# Altium integrated library Actel Fusion.IntLib: 336 symbols (part 20 of 73)
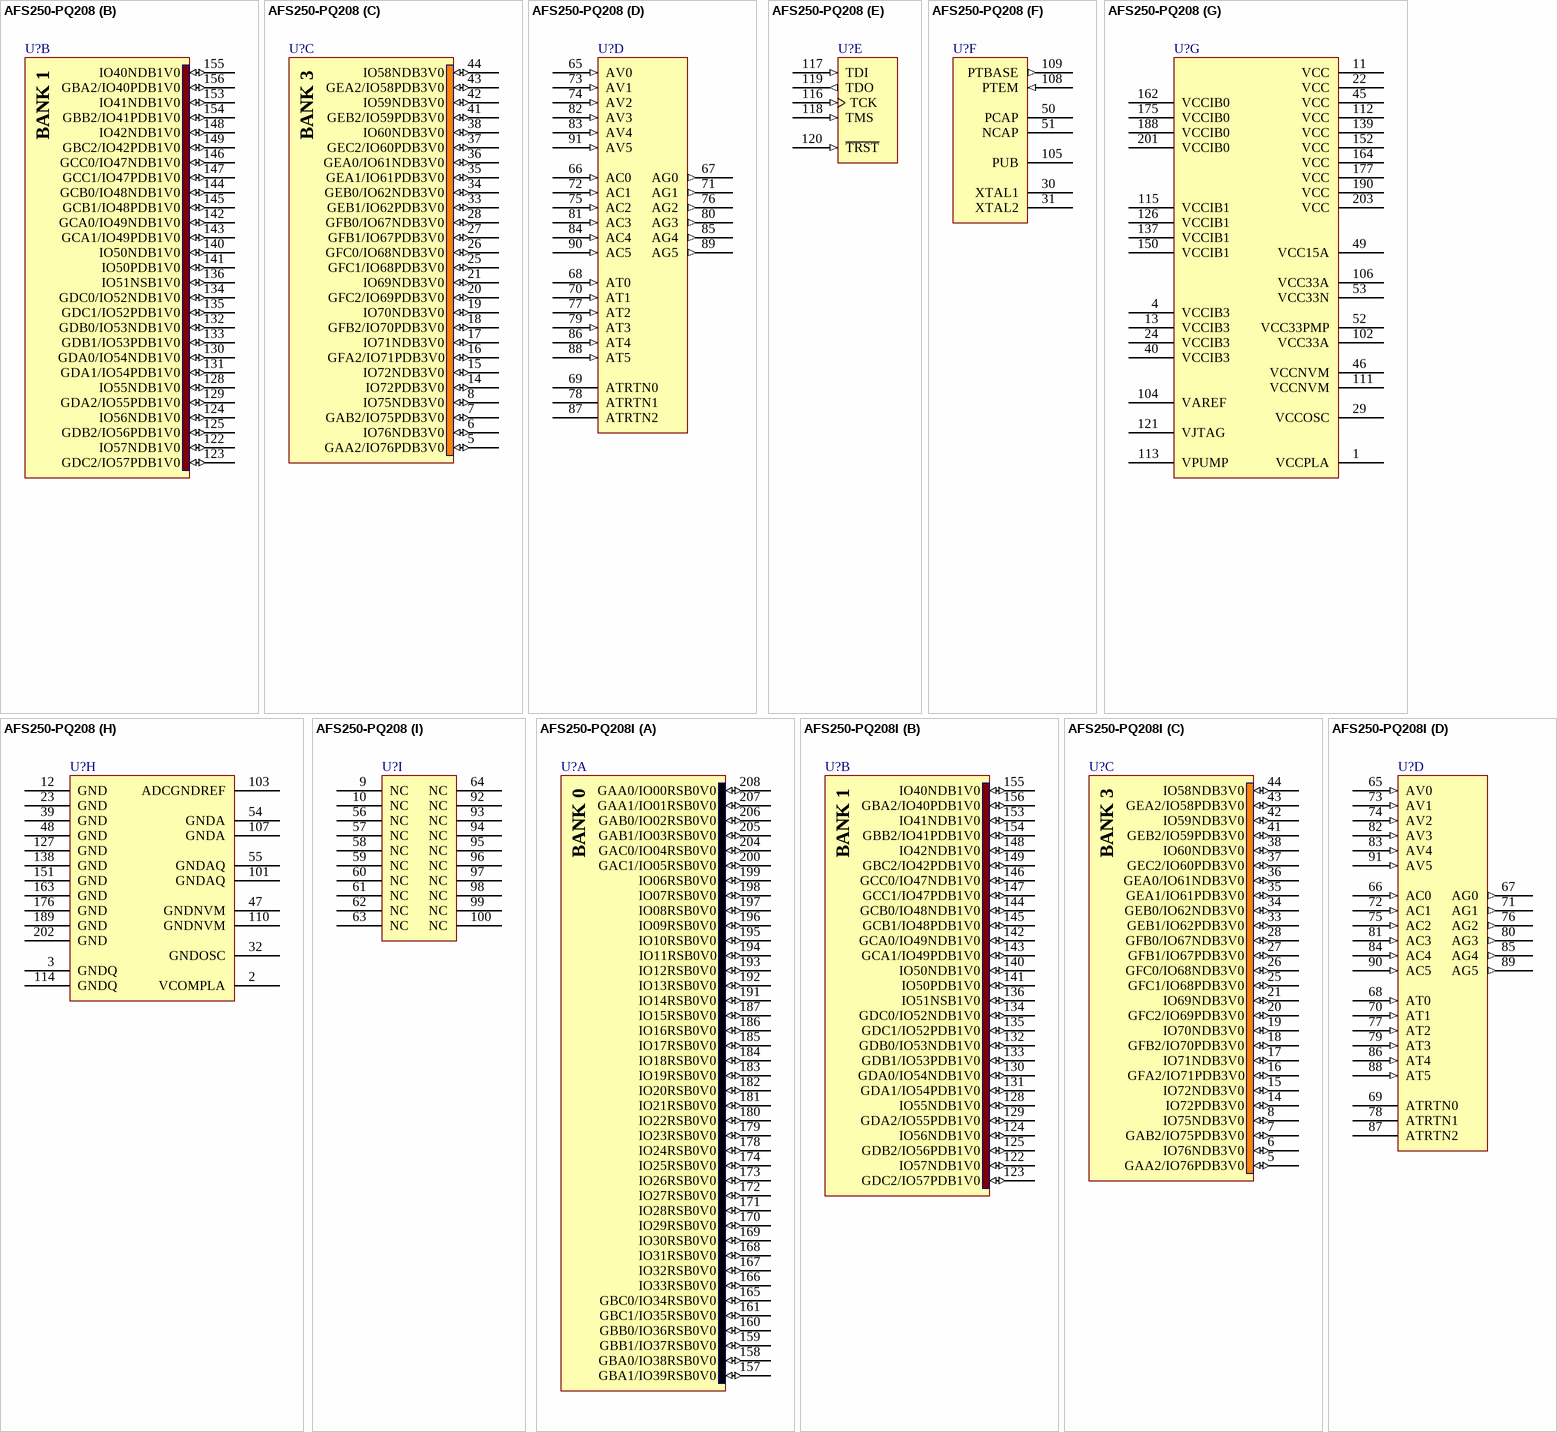
[diagram p402: symbols AFS250-PQ208 to AFS250-PQ208I]

## AFS250-PQ208
designator U?
3.3V Fusion Mixed Signal Flash FPGA, 250,000 System Gates, 208-Pin PQFP, Commercial Grade; Published: 30-Jun-2006; LatestRevisionDate: 11-Dec-2009; LatestRevisionNote: Updated to datasheet version 2.0 Jul-2009.; DatasheetVersion: v2.0, Jul-2008; PackageVersion: ver11.2, Nov-2009; PackageReference: PQ208; Publisher: Altium Limited; PackageDescription: 208-Pin Plastic Quad Flat Pack (PQ208); Code_JEDEC: MS-029-FA-1; ComponentLink1Description: Fusion Datasheet; ComponentLink1URL: http://www.actel.com/documents/Fusion_DS.pdf; ComponentLink2Description: Package Mechanical Drawings; ComponentLink2URL: http://www.actel.com/documents/PckgMechDrwngs.pdf; ComponentLink3Description: Fusion Documents; ComponentLink3URL: http://www.actel.com/products/fusion/docs.aspx; ComponentLink4Description: Actel.com Home; ComponentLink4URL: http://www.actel.com/
footprint PQ208_N (Shrink QFP, 208-Leads, Body 28x28mm, Pitch 0.5mm, IPC Medium Density)
footprint PQ208_L (Shrink QFP, 208-Leads, Body 28x28mm, Pitch 0.5mm, IPC High Density)
footprint PQ208_M (Shrink QFP, 208-Leads, Body 28x28mm, Pitch 0.5mm, IPC Low Density)
3D model AFS250-PQ208 (208-Pin Plastic Quad Flat Pack (PQ208))
signal-integrity model AFS250_PQ208 (Fusion)
part A pins: 157 GBA1/IO39RSB0V0 (io), 158 GBA0/IO38RSB0V0 (io), 159 GBB1/IO37RSB0V0 (io), 160 GBB0/IO36RSB0V0 (io), 161 GBC1/IO35RSB0V0 (io), 165 GBC0/IO34RSB0V0 (io), 166 IO33RSB0V0 (io), 167 IO32RSB0V0 (io), 168 IO31RSB0V0 (io), 169 IO30RSB0V0 (io), 170 IO29RSB0V0 (io), 171 IO28RSB0V0 (io), 172 IO27RSB0V0 (io), 173 IO26RSB0V0 (io), 174 IO25RSB0V0 (io), 178 IO24RSB0V0 (io), 179 IO23RSB0V0 (io), 180 IO22RSB0V0 (io), 181 IO21RSB0V0 (io), 182 IO20RSB0V0 (io), 183 IO19RSB0V0 (io), 184 IO18RSB0V0 (io), 185 IO17RSB0V0 (io), 186 IO16RSB0V0 (io), 187 IO15RSB0V0 (io), 191 IO14RSB0V0 (io), 192 IO13RSB0V0 (io), 193 IO12RSB0V0 (io), 194 IO11RSB0V0 (io), 195 IO10RSB0V0 (io), 196 IO09RSB0V0 (io), 197 IO08RSB0V0 (io), 198 IO07RSB0V0 (io), 199 IO06RSB0V0 (io), 200 GAC1/IO05RSB0V0 (io), 204 GAC0/IO04RSB0V0 (io), 205 GAB1/IO03RSB0V0 (io), 206 GAB0/IO02RSB0V0 (io), 207 GAA1/IO01RSB0V0 (io), 208 GAA0/IO00RSB0V0 (io)
part B pins: 122 IO57NDB1V0 (io), 123 GDC2/IO57PDB1V0 (io), 124 IO56NDB1V0 (io), 125 GDB2/IO56PDB1V0 (io), 128 IO55NDB1V0 (io), 129 GDA2/IO55PDB1V0 (io), 130 GDA0/IO54NDB1V0 (io), 131 GDA1/IO54PDB1V0 (io), 132 GDB0/IO53NDB1V0 (io), 133 GDB1/IO53PDB1V0 (io), 134 GDC0/IO52NDB1V0 (io), 135 GDC1/IO52PDB1V0 (io), 136 IO51NSB1V0 (io), 140 IO50NDB1V0 (io), 141 IO50PDB1V0 (io), 142 GCA0/IO49NDB1V0 (io), 143 GCA1/IO49PDB1V0 (io), 144 GCB0/IO48NDB1V0 (io), 145 GCB1/IO48PDB1V0 (io), 146 GCC0/IO47NDB1V0 (io), 147 GCC1/IO47PDB1V0 (io), 148 IO42NDB1V0 (io), 149 GBC2/IO42PDB1V0 (io), 153 IO41NDB1V0 (io), 154 GBB2/IO41PDB1V0 (io), 155 IO40NDB1V0 (io), 156 GBA2/IO40PDB1V0 (io)
part C pins: 5 GAA2/IO76PDB3V0 (io), 6 IO76NDB3V0 (io), 7 GAB2/IO75PDB3V0 (io), 8 IO75NDB3V0 (io), 14 IO72PDB3V0 (io), 15 IO72NDB3V0 (io), 16 GFA2/IO71PDB3V0 (io), 17 IO71NDB3V0 (io), 18 GFB2/IO70PDB3V0 (io), 19 IO70NDB3V0 (io), 20 GFC2/IO69PDB3V0 (io), 21 IO69NDB3V0 (io), 25 GFC1/IO68PDB3V0 (io), 26 GFC0/IO68NDB3V0 (io), 27 GFB1/IO67PDB3V0 (io), 28 GFB0/IO67NDB3V0 (io), 33 GEB1/IO62PDB3V0 (io), 34 GEB0/IO62NDB3V0 (io), 35 GEA1/IO61PDB3V0 (io), 36 GEA0/IO61NDB3V0 (io), 37 GEC2/IO60PDB3V0 (io), 38 IO60NDB3V0 (io), 41 GEB2/IO59PDB3V0 (io), 42 IO59NDB3V0 (io), 43 GEA2/IO58PDB3V0 (io), 44 IO58NDB3V0 (io)
part D pins: 65 AV0 (in) "Analog voltage pad 0.", 66 AC0 (in) "Analog current pad 0.", 67 AG0 (out) "Analog gate driver pad 0.", 68 AT0 (in) "Analog temperature pad 0.", 69 ATRTN0 "Temperature monitor return 0.", 70 AT1 (in) "Analog temperature pad 1.", 71 AG1 (out) "Analog gate driver pad 1.", 72 AC1 (in) "Analog current pad 1.", 73 AV1 (in) "Analog voltage pad 1.", 74 AV2 (in) "Analog voltage pad 2.", 75 AC2 (in) "Analog current pad 2.", 76 AG2 (out) "Analog gate driver pad 2.", 77 AT2 (in) "Analog temperature pad 2.", 78 ATRTN1 "Temperature monitor return 1.", 79 AT3 (in) "Analog temperature pad 3.", 80 AG3 (out) "Analog gate driver pad 3.", 81 AC3 (in) "Analog current pad 3.", 82 AV3 (in) "Analog voltage pad 3.", 83 AV4 (in) "Analog voltage pad 4.", 84 AC4 (in) "Analog current pad 4.", 85 AG4 (out) "Analog gate driver pad 4.", 86 AT4 (in) "Analog temperature pad 4.", 87 ATRTN2 "Temperature monitor return 2.", 88 AT5 (in) "Analog temperature pad 5.", 89 AG5 (out) "Analog gate driver pad 5.", 90 AC5 (in) "Analog current pad 5.", 91 AV5 (in) "Analog voltage pad 5."
part E pins: 116 TCK (in), 117 TDI (in), 118 TMS (in), 119 TDO (out), 120 ~{TRST} (in)
part F pins: 30 XTAL1 "Input to crystal oscillator - If using external RC network or clock input, XTAL1 should be used and XTAL2 left unconnected.", 31 XTAL2 "Input to crystal oscillator - If using external RC network or clock input, XTAL1 should be used and XTAL2 left unconnected.", 50 PCAP "POSITIVE CAPACITOR - where the positive terminal of the charge pump capacitor is connected.", 51 NCAP "NEGATIVE CAPACITOR - where the negative terminal of the charge pump capacitor is connected.", 105 PUB "Power up bar - for the external momentary switch which turns on the 1.5V regulator.", 108 PTEM (in) "PASS TRANSISTOR EMITTER - The feedback input of the voltage regulator.", 109 PTBASE (out) "PASS TRANSISTOR BASE - The control signal of the voltage regulator."
part G pins: 1 VCCPLA (power), 4 VCCIB3 (power) "Quiet supply voltage to the input buffers of bank 3.", 11 VCC (power), 13 VCCIB3 (power), 22 VCC (power), 24 VCCIB3 (power), 29 VCCOSC (power), 40 VCCIB3 (power), 45 VCC (power), 46 VCCNVM (power) "1.5V power supply used by the Fusion device's Flash memory block module(s).", 49 VCC15A (power), 52 VCC33PMP (power) "3.3V clean analog power supply input for use by the analog charge pump.", 53 VCC33N (power) "-3.3V output from the voltage converter. A 2.2µF capacitor must be connected from this pin to ground.", 102 VCC33A (power) "Analog power pin for the analog power supply low pass filter. An external 1µF capacitor should be connected between this pin and ground.", 104 VAREF (power) "Analog reference voltage to be used by analog to digital converter.", 106 VCC33A (power), 111 VCCNVM (power) "1.5V power supply used by the Fusion device's Flash memory block module(s).", 112 VCC (power), 113 VPUMP (power), 115 VCCIB1 (power) "Quiet supply voltage to the input buffers of bank 1.", 121 VJTAG (power), 126 VCCIB1 (power), 137 VCCIB1 (power), 139 VCC (power), 150 VCCIB1 (power), 152 VCC (power), 162 VCCIB0 (power), 164 VCC (power), 175 VCCIB0 (power), 177 VCC (power), 188 VCCIB0 (power), 190 VCC (power), 201 VCCIB0 (power), 203 VCC (power)
part H pins: 2 VCOMPLA (power), 3 GNDQ (power), 12 GND (power), 23 GND (power), 32 GNDOSC (power) "Oscillator ground.", 39 GND (power), 47 GNDNVM (power) "Flash memory ground.", 48 GND (power), 54 GNDA (power), 55 GNDAQ (power), 101 GNDAQ (power), 103 ADCGNDREF (power) "Analog ground reference used by the ADC.", 107 GNDA (power), 110 GNDNVM (power) "Flash memory ground.", 114 GNDQ (power), 127 GND (power), 138 GND (power), 151 GND (power), 163 GND (power), 176 GND (power), 189 GND (power), 202 GND (power)
part I pins: 9 NC, 10 NC, 56 NC, 57 NC, 58 NC, 59 NC, 60 NC, 61 NC, 62 NC, 63 NC, 64 NC, 92 NC, 93 NC, 94 NC, 95 NC, 96 NC, 97 NC, 98 NC, 99 NC, 100 NC
part A text: BANK 0
part B text: BANK 1
part C text: BANK 3

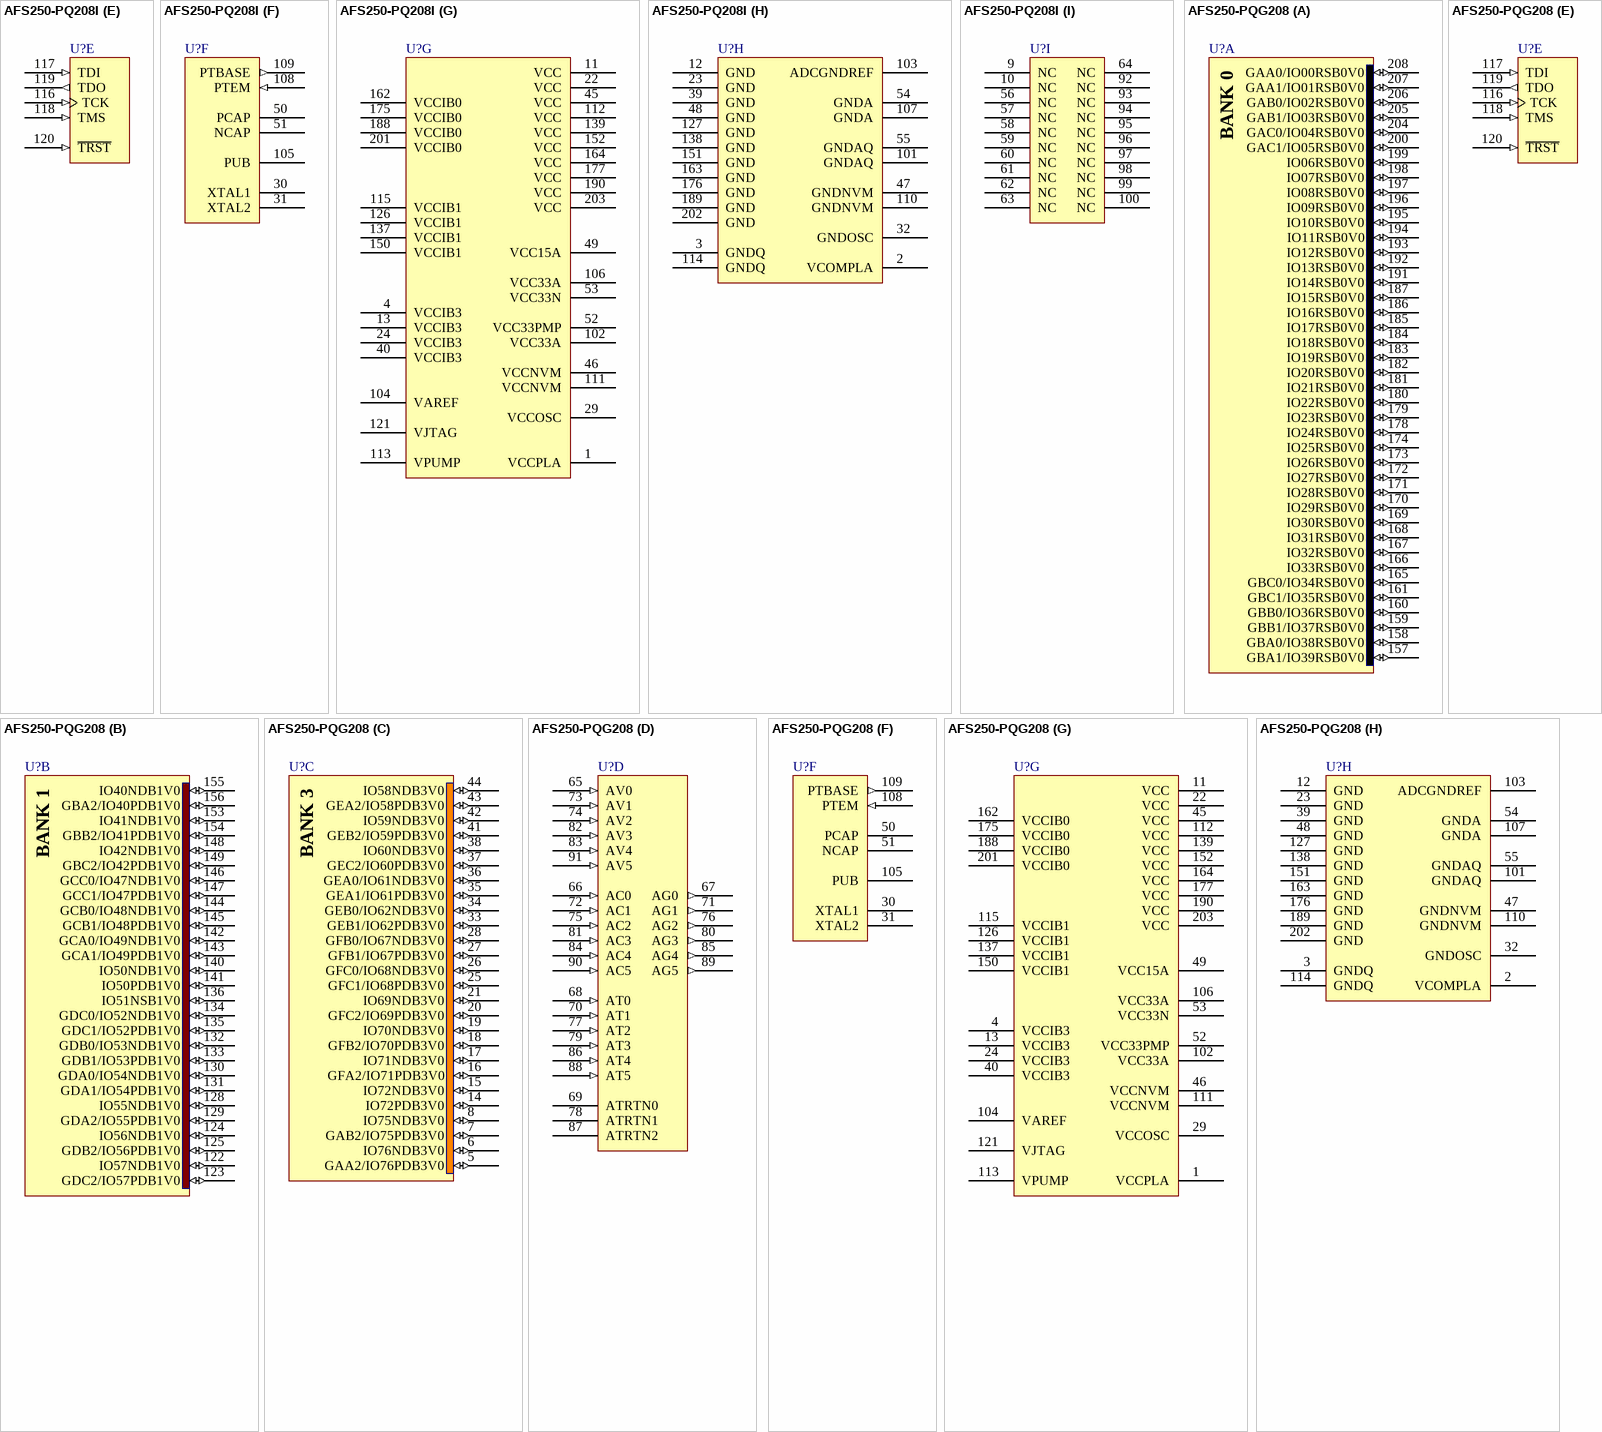
[diagram p49: symbols AFS250-PQ208I to AFS250-PQG208]